# Altium schematic symbol library XL6009.SchLib: 1 symbol
Pins are listed as number, name and electrical type; pins without a type are passive.

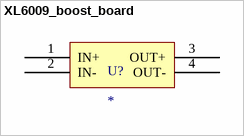
[diagram p0: symbol XL6009_boost_board]

## XL6009_boost_board
designator U?
pins: 1 IN+, 2 IN-, 3 OUT+, 4 OUT-